# Altium schematic symbol library DLW32SH101XK2L.SchLib: 1 symbol
Pins are listed as number, name and electrical type; pins without a type are passive.

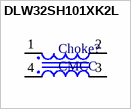
[diagram p0: symbol DLW32SH101XK2L]

## DLW32SH101XK2L
designator Choke?, comment CMCC
Common Mode Chokes / Filters 1210 80VDC 100uH 150mA AEC-Q200
footprint DLW32SH101XK2L (Common Mode Chokes / Filters 1210 80VDC 100uH 150mA AEC-Q200 / 1210)
pins: 1, 2, 3, 4